# Altium footprint library PQFN50P350X550X100_HS-25N.PcbLib: 1 footprints
Each footprint in its own frame and in the unit in brackets; x right, y up, seen from the top. Pads: shape width x height; smd on the part's side, far side on the other; paste and mask are expansions set on the pad; w line width, h text height; cw(c..) or ccw(c..) is an arc to the next point about the centre after c.
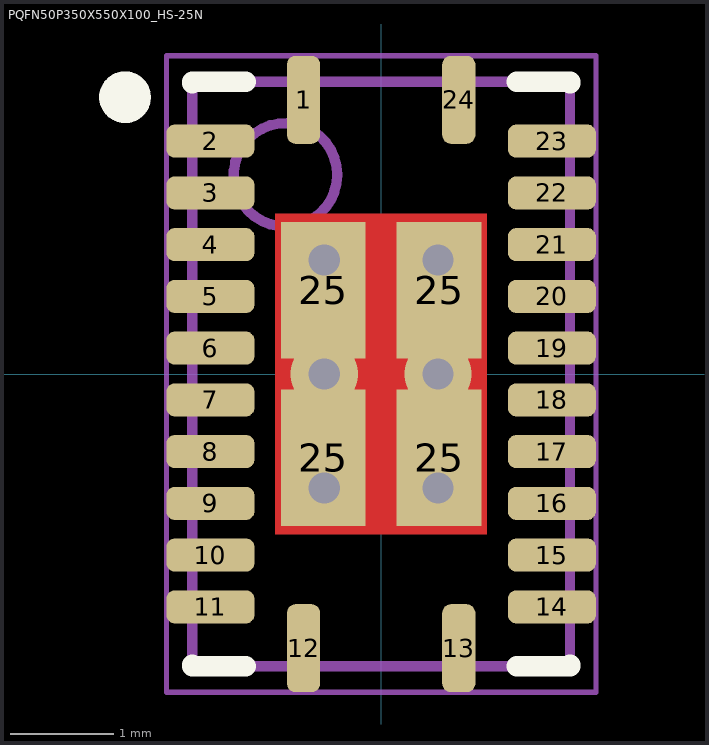
[diagram p0: the footprint, top view; thin cyan lines are the x and y axes]

## PQFN50P350X550X100_HS-25N [mm] "PQFN, 24-Leads, Body 3,50x5,50mm, Pitch 1,50mm/0,50mm, Thermal Pad 2,05x3,10mm, IPC Medium Density"
height 1
pads (28):
  rrect50% 0.32x0.85 smd: 1(-0.75,2.65) 12(-0.75,-2.65) 13(0.75,-2.65) 24(0.75,2.65)
  rrect50% 0.85x0.32 smd: 2(-1.65,2.25) 3(-1.65,1.75) 4(-1.65,1.25) 5(-1.65,0.75) 6(-1.65,0.25) 7(-1.65,-0.25) 8(-1.65,-0.75) 9(-1.65,-1.25) 10(-1.65,-1.75) 11(-1.65,-2.25) 14(1.65,-2.25) 15(1.65,-1.75) 16(1.65,-1.25) 17(1.65,-0.75) 18(1.65,-0.25) 19(1.65,0.25) 20(1.65,0.75) 21(1.65,1.25) 22(1.65,1.75) 23(1.65,2.25)
  rect 0.82x1.32 smd: 25(-0.56,-0.81) 25(-0.56,0.81) 25(0.56,-0.81) 25(0.56,0.81)
via 0.55,-1.1 diameter 0.65 hole 0.3
via -0.55,-1.1 diameter 0.65 hole 0.3
via 0.55,0 diameter 0.65 hole 0.3
via -0.55,0 diameter 0.65 hole 0.3
via 0.55,1.1 diameter 0.65 hole 0.3
via -0.55,1.1 diameter 0.65 hole 0.3
Top Layer:
  rectangle: -1.025,-1.55 1.025,1.55
Top Overlay:
  circle w0.25: c-2.475,2.675 r0.125
  lines w0.2: -1.825,-2.81 -1.825,-2.825 -1.31,-2.825 ; -1.825,2.81 -1.825,2.825 -1.31,2.825 ; 1.31,-2.825 1.825,-2.825 1.825,-2.81 ; 1.31,2.825 1.825,2.825 1.825,2.81
Top Solder:
  rectangle: -1.075,-1.575 1.075,1.575
13:
  circle w0.1: c-0.925,1.925 r0.5
  lines w0.1: -1.825,-2.825 1.825,-2.825 1.825,2.825 -1.825,2.825 -1.825,-2.825
Mechanical 15:
  lines w0.05: -2.075,-3.075 2.075,-3.075 2.075,3.075 -2.075,3.075 -2.075,-3.075
  lines w0.1: -0.5,0 0.5,0 ; 0,-0.5 0,0.5
3D body "PQFN50P350X550X100_HS-25N.step": height 1, standoff 0, extent -1.825,-2.825 1.825,2.825